# Altium footprint library SON11P50_300X300X100L40X24T240X165N.PcbLib: 1 footprints
Each footprint in its own frame and in the unit in brackets; x right, y up, seen from the top. Pads: shape width x height; smd on the part's side, far side on the other; paste and mask are expansions set on the pad; w line width, h text height; cw(c..) or ccw(c..) is an arc to the next point about the centre after c.
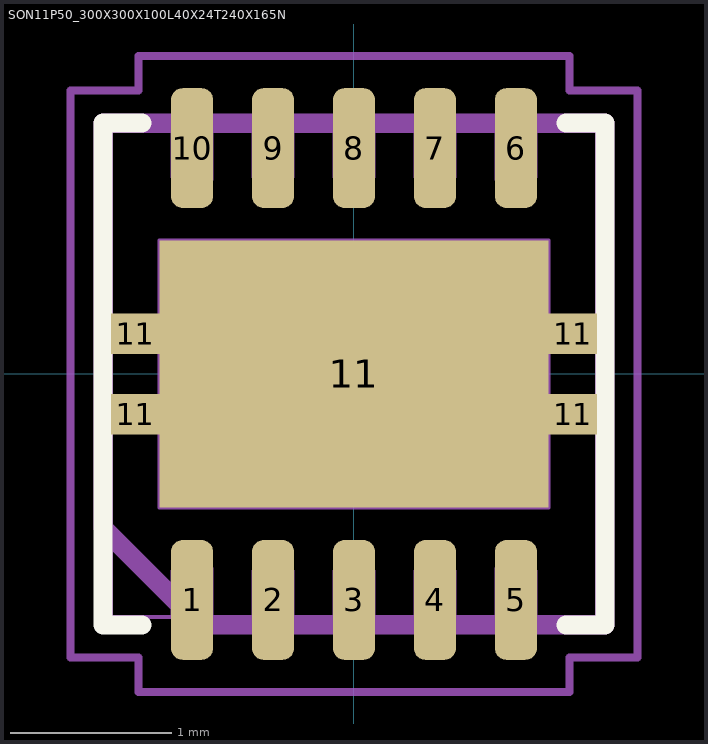
[diagram p0: the footprint, top view; thin cyan lines are the x and y axes]

## SON11P50_300X300X100L40X24T240X165N [mm] "Small Outline No-Lead (SON with Tab), 0.50 mm pitch; 10 pin, 3.00 mm L X 3.00 mm W X 1.00 mm H body"
height 1
pads (15):
  rrect54% 0.26x0.74 smd: 1(-1,-1.395) 2(-0.5,-1.395) 3(0,-1.395) 4(0.5,-1.395) 5(1,-1.395) 6(1,1.395) 7(0.5,1.395) 8(0,1.395) 9(-0.5,1.395) 10(-1,1.395)
  rect 0.3x0.25 smd: 11(-1.35,-0.25) 11(-1.35,0.25) 11(1.35,-0.25) 11(1.35,0.25)
  rect 2.4x1.65 smd paste-2.4: 11(0,0)
Top Overlay:
  lines w0.12: -1.31,-1.55 -1.55,-1.55 -1.55,1.55 -1.31,1.55 ; 1.31,-1.55 1.55,-1.55 1.55,1.55 1.31,1.55
Top Paste:
  region: 1.08,-0.7 0.12,-0.7 0.12,-0.12 1.08,-0.12
  region: 1.08,0.12 0.12,0.12 0.12,0.7 1.08,0.7
  region: -0.12,-0.7 -1.08,-0.7 -1.08,-0.12 -0.12,-0.12
  region: -0.12,0.12 -1.08,0.12 -1.08,0.7 -0.12,0.7
Mechanical 3:
  lines w0.12: -1.55,-0.95 -0.95,-1.55 1.55,-1.55 1.55,1.55 -1.55,1.55 -1.55,-0.95
Mechanical 5:
  lines w0.025: -1.5,-1.5 -1.5,1.5 1.5,1.5 1.5,-1.5 -1.5,-1.5 ; -1.2,-0.825 1.2,-0.825 1.2,0.825 -1.2,0.825 -1.2,-0.825 ; -1.12,-1.5 -1.12,-1.22 cw(c-1,-1.22) -0.88,-1.22 -0.88,-1.5 -1.12,-1.5 ; -1.12,1.22 ccw(c-1,1.22) -0.88,1.22 -0.88,1.5 -1.12,1.5 -1.12,1.22 ; -0.62,-1.5 -0.62,-1.22 cw(c-0.5,-1.22) -0.38,-1.22 -0.38,-1.5 -0.62,-1.5 ; -0.62,1.22 ccw(c-0.5,1.22) -0.38,1.22 -0.38,1.5 -0.62,1.5 -0.62,1.22 ; -0.12,-1.5 -0.12,-1.22 cw(c0,-1.22) 0.12,-1.22 0.12,-1.5 -0.12,-1.5 ; -0.12,1.22 ccw(c0,1.22) 0.12,1.22 0.12,1.5 -0.12,1.5 -0.12,1.22 ; 0.38,-1.5 0.38,-1.22 cw(c0.5,-1.22) 0.62,-1.22 0.62,-1.5 0.38,-1.5 ; 0.38,1.22 ccw(c0.5,1.22) 0.62,1.22 0.62,1.5 0.38,1.5 0.38,1.22 ; 0.88,-1.5 0.88,-1.22 cw(c1,-1.22) 1.12,-1.22 1.12,-1.5 0.88,-1.5 ; 0.88,1.22 ccw(c1,1.22) 1.12,1.22 1.12,1.5 0.88,1.5 0.88,1.22
Mechanical 7:
  circle w0.05: c0,0 r0.25
  lines w0.05: -0.35,0 0.35,0 ; 0,-0.35 0,0.35 ; -1.75,-1.75 -1.75,1.75 -1.33,1.75 -1.33,1.965 1.33,1.965 1.33,1.75 1.75,1.75 1.75,-1.75 1.33,-1.75 1.33,-1.965 -1.33,-1.965 -1.33,-1.75 -1.75,-1.75
Mechanical 9:
  text "'.Designator'" at -5.725,-0.3 h1
3D body "TPS2554DRCR.STEP": height 1.01, standoff 0.01, extent -1.5,-1.5 1.5,1.5
3D body: height 1, standoff 0, extent -1.75,-1.965 1.75,1.965